# EAGLE library part MAX912 (library MAX912)
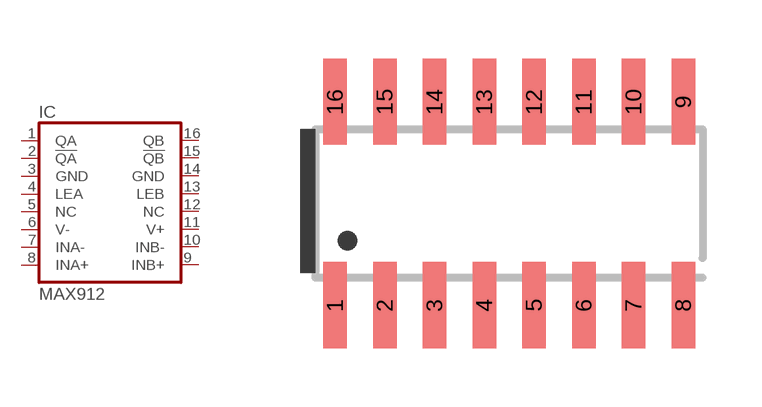
[diagram p0: symbol with the pads of SOIC16; footprint SOIC16]

Designator prefix IC

## MAX912ESE+  [SOIC16]
1  QA  out
2  !QA  out
3  GND  pwr
4  LEA  in
5  NC  nc
6  V-  pwr
7  INA-  in
8  INA+  in
9  INB+  in
10  INB-  in
11  V+  pwr
12  NC  nc
13  LEB  in
14  GND  pwr
15  !QB  out
16  QB  out

## Footprint SOIC16 (pad centres in mm)
SMALL OUTLINE INTEGRATED CIRCUIT
smd 0.6 x 2.2: 1 -4.445,-2.6; 2 -3.175,-2.6; 3 -1.905,-2.6; 4 -0.635,-2.6; 5 0.635,-2.6; 6 1.905,-2.6; 7 3.175,-2.6; 8 4.445,-2.6; 9 4.445,2.6; 10 3.175,2.6; 11 1.905,2.6; 12 0.635,2.6; 13 -0.635,2.6; 14 -1.905,2.6; 15 -3.175,2.6; 16 -4.445,2.6